# EAGLE library part M25P* (library untitled)
M25P32, Serial Flash from numonyx
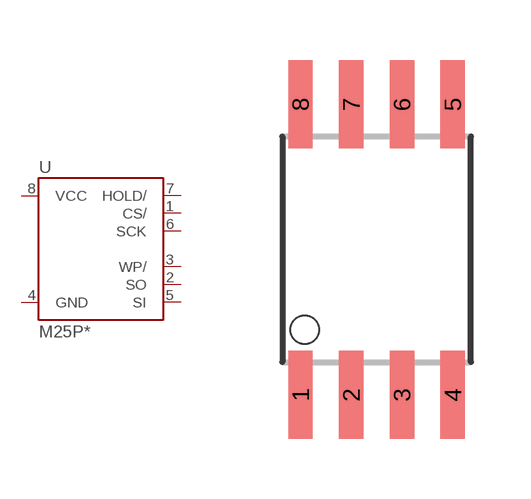
[diagram p1: symbol with the pads of SO8W; footprint SO8W]

Designator prefix -

## M25P  [SO8W]
1  CS/  in
2  SO  in
3  WP/  in
4  GND  pwr
5  SI
6  SCK
7  HOLD/  in
8  VCC  pwr

## Footprint SO8W (pad centres in mm)
SO8 Wide, Pitch 1.27; 7,62mm wide
smd 0.61 x 2.21: 1 -1.905,-3.632; 2 -0.635,-3.632; 3 0.635,-3.632; 4 1.905,-3.632; 5 1.905,3.632; 6 0.635,3.632; 7 -0.635,3.632; 8 -1.905,3.632